# Altium footprint library MUSB_05_X_B_SM_A.PcbLib: 1 footprints
Each footprint in its own frame and in the unit in brackets; x right, y up, seen from the top. Pads: shape width x height; smd on the part's side, far side on the other; paste and mask are expansions set on the pad; w line width, h text height; cw(c..) or ccw(c..) is an arc to the next point about the centre after c.
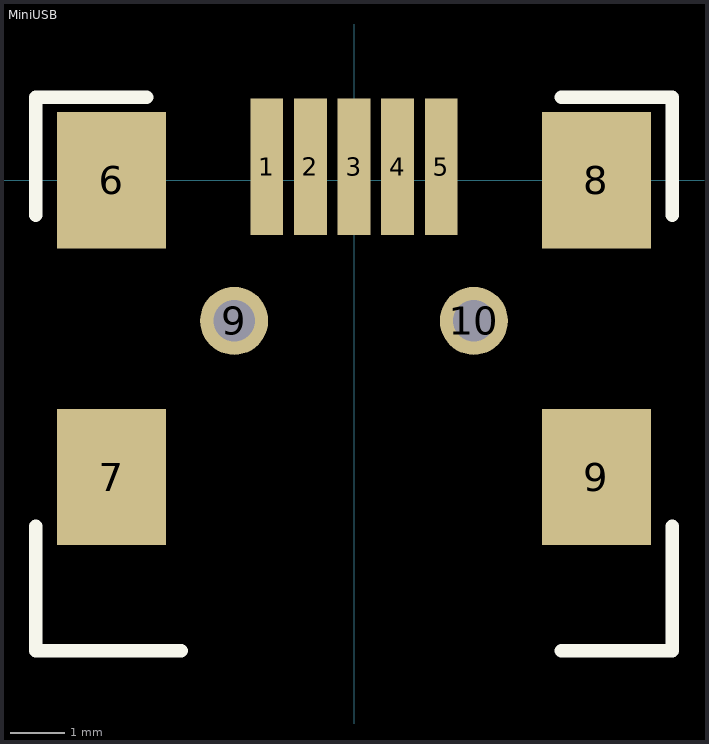
[diagram p0: the footprint, top view; thin cyan lines are the x and y axes]

## MiniUSB [mm]
pads (11):
  rect 0.6x2.5 smd: 1(-1.6,0.25) 2(-0.8,0.25) 3(0,0.25) 4(0.8,0.25) 5(1.6,0.25)
  rect 2x2.5 smd: 6(-4.45,0) 7(-4.45,-5.45) 8(4.45,0) 9(4.45,-5.45)
  round 1.25 hole 0.762: 9(-2.2,-2.58) 10(2.2,-2.58)
Top Overlay:
  lines w0.254: -5.842,-6.35 -5.842,-8.636 -3.175,-8.636 ; -5.842,-0.635 -5.842,1.524 -3.81,1.524 ; 3.81,-8.636 5.842,-8.636 5.842,-6.35 ; 3.81,1.524 5.842,1.524 5.842,-0.635
3D body: height 3.9, standoff -1.1, extent -4.95,-8.41 4.95,1.09